# Altium integrated library piec.IntLib: 9 symbols
Pins are listed as number, name and electrical type; pins without a type are passive.

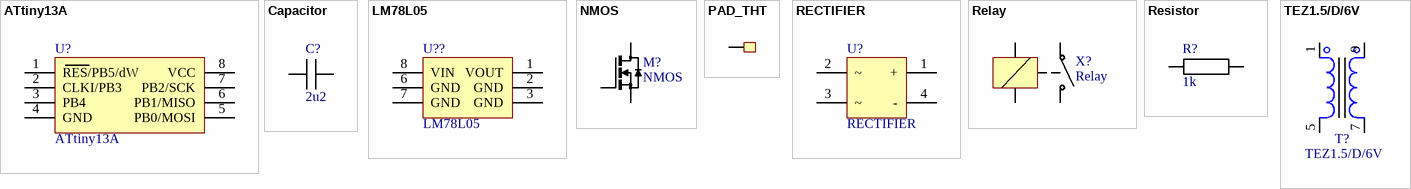
[diagram p0: symbols ATtiny13A to TEZ1.5/D/6V]

## ATtiny13A
designator U?
footprint SOIC8
pins: 1 RES/PB5/dW, 2 CLKI/PB3, 3 PB4, 4 GND (power), 5 PB0/MOSI, 6 PB1/MISO, 7 PB2/SCK, 8 VCC (power)

## Capacitor
designator C?  value 2u2  (hidden comment: Capacitor)
footprint 1206C
footprint 0805C
pins: 1, 2

## LM78L05
designator U??
footprint SOIC8
pins: 1 VOUT (power), 2 GND (power), 3 GND (power), 6 GND (power), 7 GND (power), 8 VIN (power)

## NMOS
designator M?
footprint SOT23-3
pins: 1 G, 2 S, 3 D

## PAD_THT
designator P?  (value not drawn)
footprint PAD_2mm
footprint PAD_0.8mm
pins: 1 (power)

## RECTIFIER
designator U?
footprint GBJ4
pins: 1 + (power), 2 ~ (power), 3 ~ (power), 4 - (power)

## Relay
designator X?
footprint JV-KT (Relay)
pins: 1 (power), 2 (power), 3 (power), 4 (power)

## Resistor
designator R?  value 1k  (hidden comment: Resistor)
footprint 1206R
footprint 0805R
pins: 1, 2

## TEZ1.5/D/6V
designator T?
footprint TEZ1.6
pins: 1, 5, 7, 9